# Altium schematic symbol library components.SchLib: 8 symbols
Pins are listed as number, name and electrical type; pins without a type are passive.

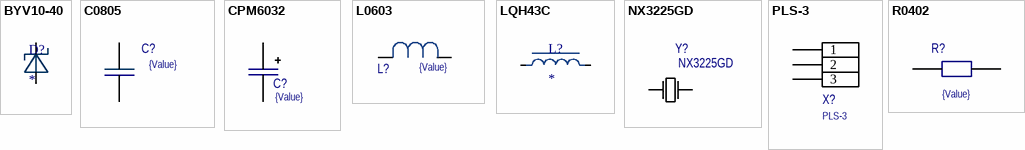
[diagram p0: symbols BYV10-40 to R0402]

## BYV10-40
designator D?
Diode Schottky
footprint BYV10-40
pins: 1, 2

## C0805
designator C?, comment {Value}
Capacitor; Value: {Value}
footprint C_0805 (Capacitor Pattern)
pins: 1, 2

## CPM6032
designator C?, comment {Value}
Capacitor; Value: {Value}
footprint CPM6032
pins: 1, 2

## L0603
designator L?, comment {Value}
Inductor; Value: {Value}
footprint L_0603 (Inductor Pattern)
pins: 1, 2

## LQH43C
designator L?
Inductor with Inductance: 2.2uH Tol. +/-20%, Package: 1812 (4532); MP: LQH43CN2R2M03L; MF: Murata; Package: NONSTANDARD; SnapEDA_Link: https://www.snapeda.com/parts/LQH43CN2R2M03L/Murata/view-part/4550537/?ref=snap; Purchase-URL: https://pricing.snapeda.com/search/part/LQH43CN2R2M03L/?ref=eda; Price: None; Value: *; Availability: Good
footprint IND_LQH43CN2R2M03L
pins: 1, 2

## NX3225GD
designator Y?
Crystal Oscillator
footprint NX3225GD
pins: 1 OSC1, 2 OSC2

## PLS-3
designator X?
Header, 3-Pin; LatestRevisionDate: 17-Jul-2002; LatestRevisionNote: Re-released for DXP Platform.; Publisher: Altium Limited
footprint PLS-3-3D (Connector; Header; 3 Position)
pins: 1, 2, 3

## R0402
designator R?, comment {Value}
Resistor; Value: {Value}
footprint R_0402
pins: 1, 2